# EAGLE library part DFPLAYER (library christy)
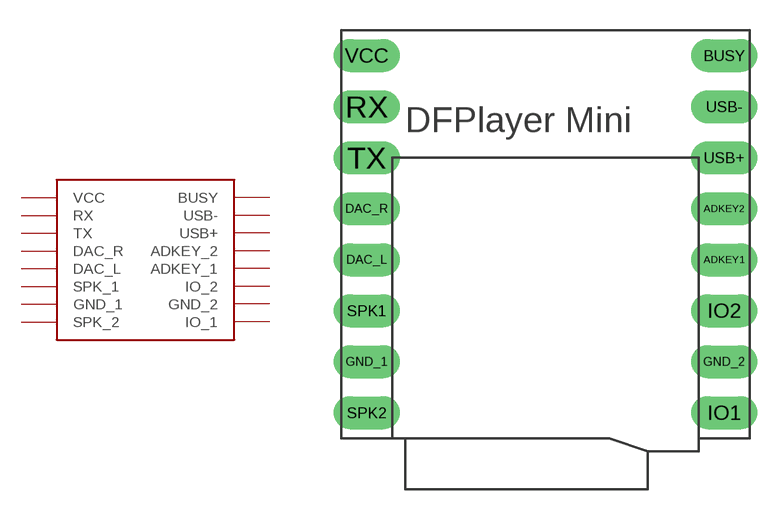
[diagram p5: symbol with the pads of DFPLAYER; footprint DFPLAYER]

Designator prefix -

## DFPLAYER  [DFPLAYER]
ADKEY1  ADKEY_1
ADKEY2  ADKEY_2
BUSY  BUSY
DAC_L  DAC_L
DAC_R  DAC_R
GND_1  GND_1
GND_2  GND_2
IO1  IO_1
IO2  IO_2
RX  RX
SPK1  SPK_1
SPK2  SPK_2
TX  TX
USB+  USB+
USB-  USB-
VCC  VCC

## Footprint DFPLAYER (pad centres in mm)
drill 1.016 pad 1.651 long: ADKEY1 8.89,-1.27; ADKEY2 8.89,1.27; BUSY 8.89,8.89; DAC_L -8.89,-1.27; DAC_R -8.89,1.27; GND_1 -8.89,-6.35; GND_2 8.89,-6.35; IO1 8.89,-8.89; IO2 8.89,-3.81; RX -8.89,6.35; SPK1 -8.89,-3.81; SPK2 -8.89,-8.89; TX -8.89,3.81; USB+ 8.89,3.81; USB- 8.89,6.35; VCC -8.89,8.89